# EAGLE library part BNX022 (library Traficon)
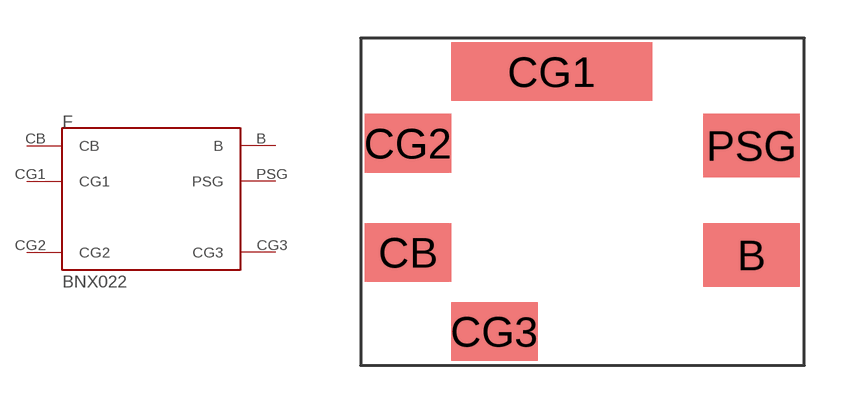
[diagram p118: symbol with the pads of SMDBNX022; footprint SMDBNX022]

Designator prefix F

## BNX022  [SMDBNX022]
B  B
CB  CB
CG1  CG1
CG2  CG2
CG3  CG3
PSG  PSG

## Footprint SMDBNX022 (pad centres in mm)
smd 3.8 x 2.5: B -1.901,-8.35; PSG -1.901,-4.05
smd 3.4 x 2.3: CB -15.383,-8.246; CG2 -15.388,-3.961; CG3 -11.991,-11.35
smd 7.9 x 2.3: CG1 -9.75,-1.15